# Altium integrated library Switches - MISC.IntLib: 1 symbol
Pins are listed as number, name and electrical type; pins without a type are passive.

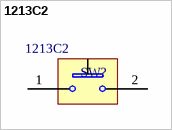
[diagram p0: symbol 1213C2]

## 1213C2
designator SW?
1213C2 Momentary Switch, APEM, 12-24VDC, 125-250VAC, Panel Mount, solder lugs; Actuator Style: Plunger; Configuration: SPST-NO; Current Rating (AC/DC): 3A; Switch Function: Momentary Spring Return; Voltage Rating (AC/DC): 250Vac/12Vdc; Supplier 1: Newark; Supplier Part Number 1: 35M0120; Supplier 2: Mouser; Supplier Part Number 2: 642-1213C2; Supplier 3: Digi-Key; Supplier Part Number 3: 679-1040-ND; Manufacturer: APEM; PackageDescription: SPST Momentary switch; Package Reference: n/a; Part Number: 1213C2
footprint SPST - Momentary (SPST Momentary switch)
pins: 1, 2